# EAGLE library part HT12D (library E&R_CircuitosIntegrados)
Decoder
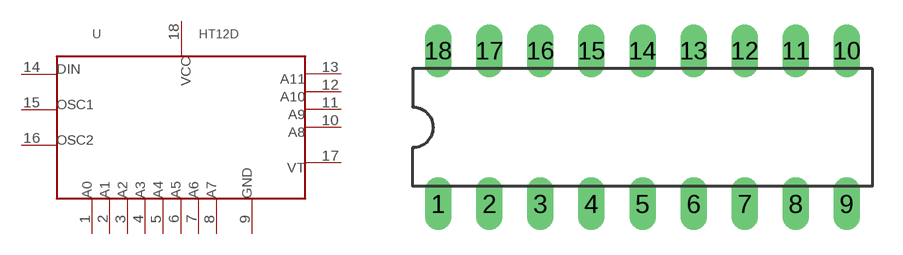
[diagram p1: symbol with the pads of DIL18; footprint DIL18]

Designator prefix U

## HT12D"  [DIL18]
1  1  pwr
2  2  pwr
3  3  pwr
4  4  pwr
5  5  pwr
6  6  pwr
7  7  pwr
8  8  pwr
9  9  pwr
10  10  out
11  11  out
12  12  out
13  13  out
14  14  in
15  15
16  16
17  17  nc
18  18  pwr

## Footprint DIL18 (pad centres in mm)
Dual In Line Package
drill 0.813 long: 1 -10.16,-3.81; 2 -7.62,-3.81; 3 -5.08,-3.81; 4 -2.54,-3.81; 5 0,-3.81; 6 2.54,-3.81; 7 5.08,-3.81; 8 7.62,-3.81; 9 10.16,-3.81; 10 10.16,3.81; 11 7.62,3.81; 12 5.08,3.81; 13 2.54,3.81; 14 0,3.81; 15 -2.54,3.81; 16 -5.08,3.81; 17 -7.62,3.81; 18 -10.16,3.81